# EAGLE library part HEADER-1X6 (library IntegerLabs)
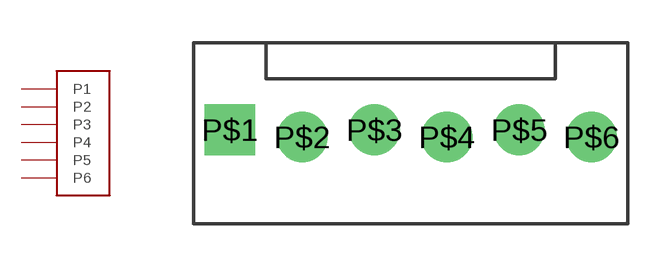
[diagram p26: symbol with the pads of HEADER-6POS-MOLEX-KK254; footprint HEADER-6POS-MOLEX-KK254]

Designator prefix -

## HEADER-1X6MOLEX-KK254  [HEADER-6POS-MOLEX-KK254]
P$1  P1
P$2  P2
P$3  P3
P$4  P4
P$5  P5
P$6  P6

## Footprint HEADER-6POS-MOLEX-KK254 (pad centres in mm)
drill 1.016 pad 1.778 square: P$1 -6.35,0.127
drill 1.016 pad 1.778: P$2 -3.81,-0.127; P$3 -1.27,0.127; P$4 1.27,-0.127; P$5 3.81,0.127; P$6 6.35,-0.127